# EAGLE library part CH224K (library edrtech_lib)
ESSOP-10 USB ICs ROHS Source: Datasheet <https://datasheet.lcsc.com/lcsc/2204251615_WCH-Jiangsu-Qin-Heng-CH224K_C970725.pdf>
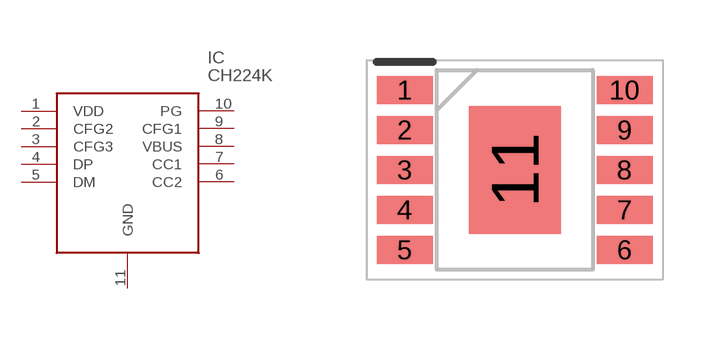
[diagram p22: symbol with the pads of SOP100P600X180-11N; footprint SOP100P600X180-11N]

Designator prefix IC

## CH224K (DESCRIPTION: ESSOP-10 USB ICs ROHS; HEIGHT: 1.8mm; MANUFACTURER_NAME: WCH; MANUFACTURER_PART_NUMBER: CH224K)  [SOP100P600X180-11N]
1  VDD
2  CFG2
3  CFG3
4  DP
5  DM
6  CC2
7  CC1
8  VBUS
9  CFG1
10  PG
11  GND

## Footprint SOP100P600X180-11N (pad centres in mm)
ESSOP10 (5*3.9mm)
smd 1.4 x 0.7: 1 -2.75,2; 2 -2.75,1; 3 -2.75,0; 4 -2.75,-1; 5 -2.75,-2; 6 2.75,-2; 7 2.75,-1; 8 2.75,0; 9 2.75,1; 10 2.75,2
smd 2.3 x 3.2: 11 0,0